# EAGLE library part XF2U-1115-3A (library OMRON_ELECTRONIC_COMPONENTS_By_element14_Batch_1)
CONNECTOR, FPC, 0.5MM, 11WAY
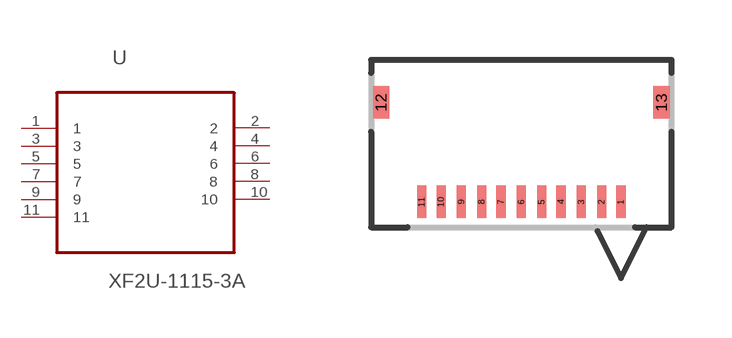
[diagram p8: symbol with the pads of OMRON_XF2U-1115-3A; footprint OMRON_XF2U-1115-3A]

Designator prefix U

## XF2U-1115-3A (MPN: XF2U-1115-3A; OC_FARNELL: 1430943; OC_NEWARK: 59M3522; PACKAGE: CONNECTOR, FPC, 0.5MM, 11WAY; SUPPLIER: OMRON ELECTRONIC COMPONENTS)  [OMRON_XF2U-1115-3A]
1  1  pas
2  2  pas
3  3  pas
4  4  pas
5  5  pas
6  6  pas
7  7  pas
8  8  pas
9  9  pas
10  10  pas
11  11  pas

## Footprint OMRON_XF2U-1115-3A (pad centres in mm)
smd 0.229 x 0.813: 1 2.489,1.143; 2 2.007,1.143; 3 1.499,1.143; 4 0.991,1.143; 5 0.508,1.143; 6 0,1.143; 7 -0.508,1.143; 8 -0.991,1.143; 9 -1.499,1.143; 10 -2.007,1.143; 11 -2.489,1.143
smd 0.406 x 0.813: 12 -3.505,3.632; 13 3.505,3.632